# Altium footprint library custom-case.PcbLib: 44 footprints (part 2 of 3)
Each footprint in its own frame and in the unit in brackets; x right, y up, seen from the top. Pads: shape width x height; smd on the part's side, far side on the other; paste and mask are expansions set on the pad; w line width, h text height; cw(c..) or ccw(c..) is an arc to the next point about the centre after c.
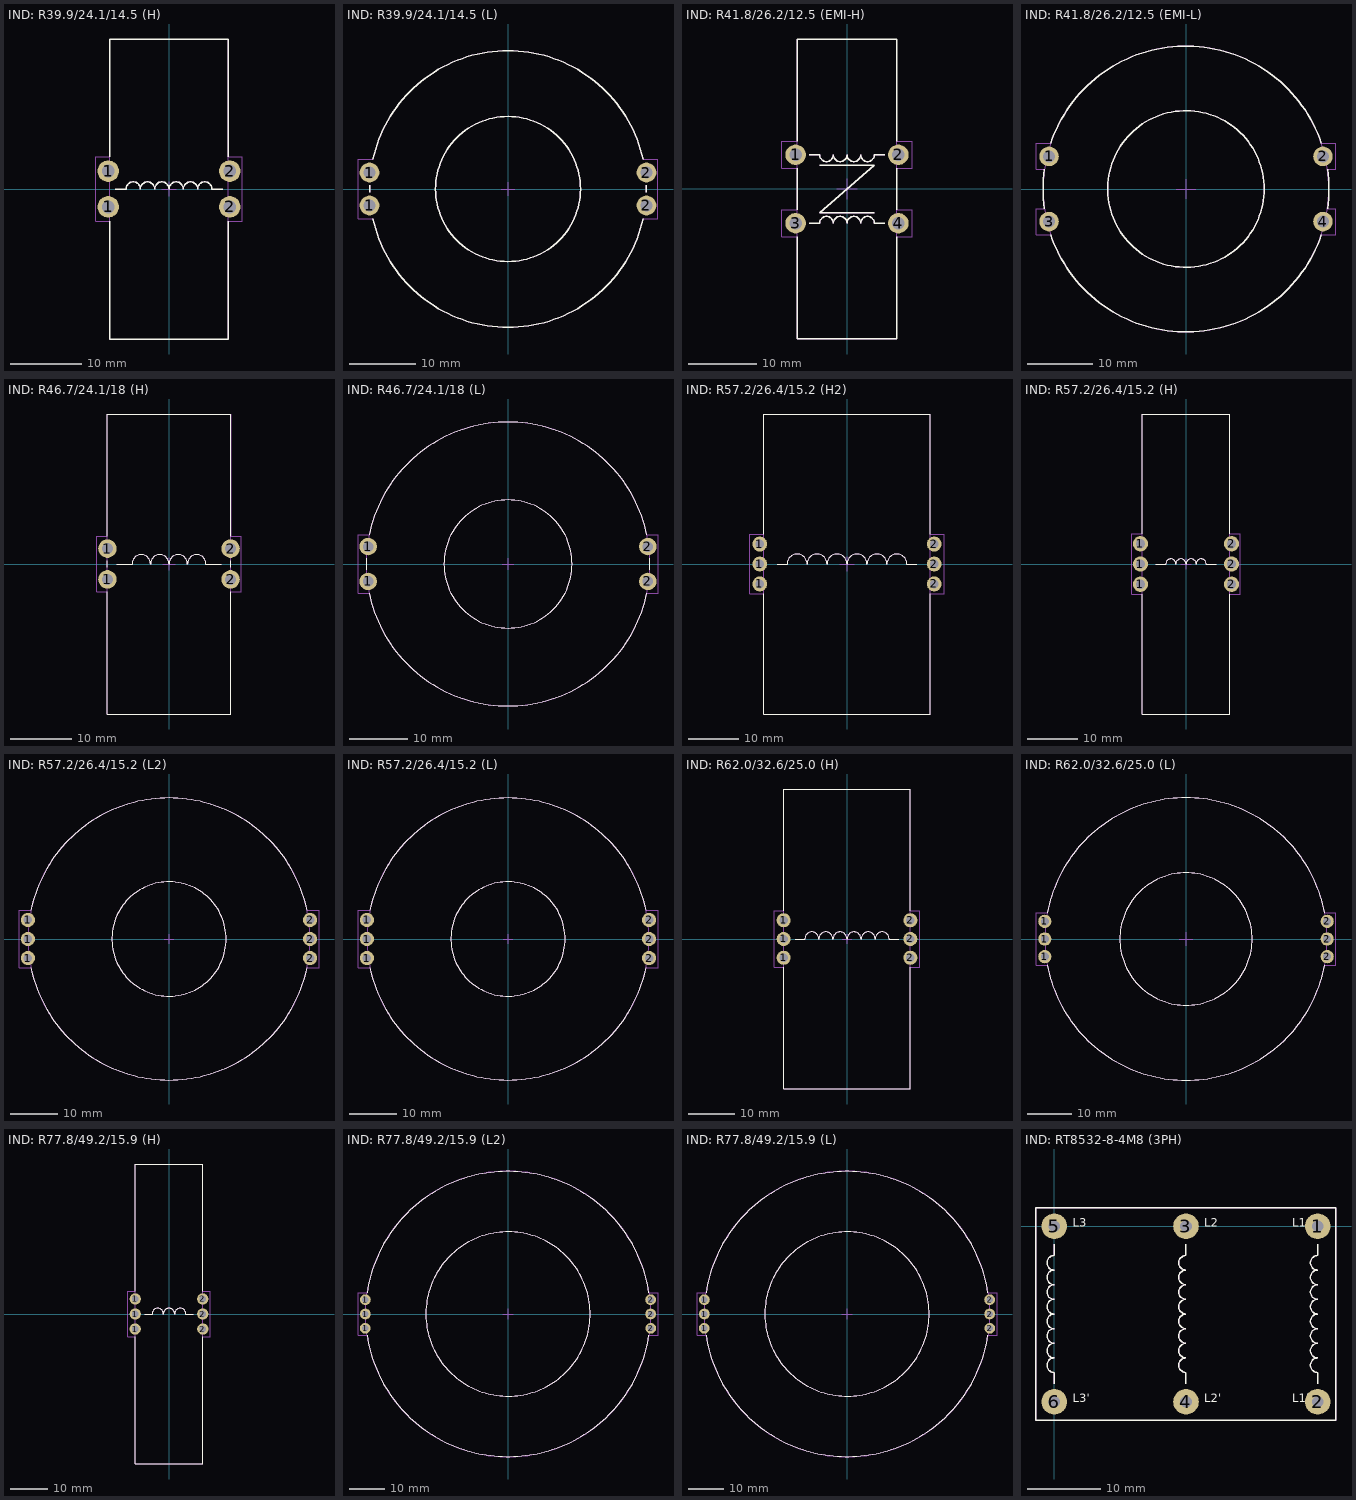
[diagram p1: the footprints below, top view; thin cyan lines are the x and y axes]

## IND: R39.9/24.1/14.5 (H) [mm]
pads (4):
  round 3 hole 1.8: 1(-8.5,-2.5) 1(-8.5,2.5) 2(8.5,-2.5) 2(8.5,2.5)
Top Overlay:
  lines w0.2: -8.276,-4.5 -8.276,-20.976 8.276,-20.976 8.276,-4.5 ; -8.276,4.5 -8.276,20.976 8.276,20.976 8.276,4.5 ; -7.5,0 -6,0 cw(c-5,0) -4,0 cw(c-3,0) -2,0 cw(c-1,0) 0,0 cw(c1,0) 2,0 cw(c3,0) 4,0 cw(c5,0) 6,0 7.5,0
Top Assy:
  lines w0.1: -7.5,0 -6,0 cw(c-5,0) -4,0 cw(c-3,0) -2,0 cw(c-1,0) 0,0 cw(c1,0) 2,0 cw(c3,0) 4,0 cw(c5,0) 6,0 7.5,0 ; -8.276,-20.976 8.276,-20.976 8.276,20.976 -8.276,20.976 -8.276,-20.976
Size Area:
  lines w0.1: -1,0 1,0 ; 0,-1 0,1 ; -10.25,-4.5 -8.276,-4.5 -8.276,-20.976 8.276,-20.976 8.276,-4.5 10.25,-4.5 10.25,4.5 8.276,4.5 8.276,20.976 -8.276,20.976 -8.276,4.5 -10.25,4.5 -10.25,-4.5
3D body "F4 R 39.9 x 24.1 x 14.5 v1.step": height 41.98, standoff 0.02, extent -8.276,-20.976 8.276,20.976

## IND: R39.9/24.1/14.5 (L) [mm]
pads (4):
  round 3 hole 1.8: 1(-21,-2.5) 1(-21,2.5) 2(21,-2.5) 2(21,2.5)
Top Overlay:
  circle w0.2: c0,0 r11
  lines w0.2: -20.97,-0.498 cw(c0,0) -20.969,0.549 ; -20.488,-4.497 ccw(c0,0) 20.488,-4.497 ; -20.488,4.497 cw(c0,0) 20.488,4.497 ; 20.969,0.549 cw(c0,0) 20.97,-0.498
Top Assy:
  circle w0.1: c0,0 r11
  lines w0.1: -20.97,-0.498 cw(c0,0) -20.969,0.549 ; -20.488,-4.497 ccw(c0,0) 20.488,-4.497 ; -20.488,4.497 cw(c0,0) 20.488,4.497 ; 20.969,0.549 cw(c0,0) 20.97,-0.498
Size Area:
  lines w0.1: -1,0 1,0 ; 0,-1 0,1 ; 20.488,4.497 ccw(c0,0) -20.488,4.497 -22.75,4.497 -22.75,-4.497 -20.488,-4.497 ccw(c0,0) 20.488,-4.497 22.75,-4.497 22.75,4.497 20.5,4.497
3D body "F4 R 39.9 x 24.1 x 14.5 v1.step": height 16.53, standoff -0.03, extent -20.976,-20.976 20.976,20.976

## IND: R41.8/26.2/12.5 (EMI-H) [mm]
pads (4):
  round 3 hole 1.8: 1(-7.5,5) 2(7.5,5) 3(-7.5,-5) 4(7.5,-5)
Top Overlay:
  lines w0.2: -7.256,-7 -7.256,-21.906 7.256,-21.906 7.256,-7 ; -7.256,-3 -7.256,3 ; -7.256,7 -7.256,21.906 7.256,21.906 7.256,7 ; -5.5,-5 -4,-5 cw(c-3,-5) -2,-5 cw(c-1,-5) 0,-5 cw(c1,-5) 2,-5 cw(c3,-5) 4,-5 5.5,-5 ; -5.5,5 -4,5 ccw(c-3,5) -2,5 ccw(c-1,5) 0,5 ccw(c1,5) 2,5 ccw(c3,5) 4,5 5.5,5 ; -4,3.5 4,3.5 -4,-3.5 4,-3.5 ; 7.256,-3 7.256,3
Top Assy:
  lines w0.1: -5.5,-5 -4,-5 cw(c-3,-5) -2,-5 cw(c-1,-5) 0,-5 cw(c1,-5) 2,-5 cw(c3,-5) 4,-5 5.5,-5 ; -5.5,5 -4,5 ccw(c-3,5) -2,5 ccw(c-1,5) 0,5 ccw(c1,5) 2,5 ccw(c3,5) 4,5 5.5,5 ; -4,3.5 4,3.5 -4,-3.5 4,-3.5 ; -7.256,-21.906 -7.256,21.906 7.256,21.906 7.256,-21.906 -7.256,-21.906
Size Area:
  lines w0.1: -1.5,0 1.5,0 ; 0,-1.5 0,1.5 ; -9.5,-7 -9.5,-3 -7.256,-3 -7.256,3 -9.5,3 -9.5,7 -7.256,7 -7.256,21.906 7.256,21.906 7.256,7 9.5,7 9.5,3 7.256,3 7.256,-3 9.5,-3 9.5,-7 7.256,-7 7.256,-21.906 -7.256,-21.906 -7.256,-7 -9.5,-7
3D body "R 41.8 x 26.2 x 12.5Blue.step": height 41.9, standoff 0.1, extent -7.256,-21.906 7.256,21.906

## IND: R41.8/26.2/12.5 (EMI-L) [mm]
pads (4):
  round 3 hole 1.8: 1(-21,5) 2(21,5) 3(-21,-5) 4(21,-5)
Top Overlay:
  circle w0.2: c0,0 r12
  lines w0.2: -21.7,3 ccw(c0,0) -21.698,-3.014 ; -20.762,-6.987 ccw(c0,0) 20.751,-7.017 ; -20.762,6.987 cw(c0,0) 20.751,7.017 ; 21.698,-3.014 ccw(c0,0) 21.7,3
Top Assy:
  circle w0.1: c0,0 r21.9
  circle w0.1: c0,0 r12
Size Area:
  lines w0.1: -1.5,0 1.5,0 ; 0,-1.5 0,1.5 ; -23,-7 -23,-3.014 -21.698,-3.014 cw(c0,0) -21.7,3 -23,3 -23,7 -20.762,6.987 cw(c0,0) 20.751,7.017 23,7 23,3 21.7,3 cw(c0,0) 21.698,-3.014 23,-3.014 23,-7.017 20.751,-7.017 cw(c0,0) -20.762,-6.987 -23,-7
3D body "R 41.8 x 26.2 x 12.5Blue.step": height 14.64, standoff 0.13, extent -20.9,-21.906 20.9,21.906

## IND: R46.7/24.1/18 (H) [mm]
pads (4):
  round 3 hole 1.8: 1(-10,-2.5) 1(-10,2.5) 2(10,-2.5) 2(10,2.5)
Top Overlay:
  lines w0.2: -10.026,-4.5 -10.026,-24.363 10.026,-24.363 10.026,-4.5 ; -10.026,-0.5 -10,0.5 ; -10.026,4.5 -10.026,24.363 10.026,24.363 10.026,5 10.026,4.5 ; -8.5,0 -6,0 cw(c-4.5,0) -3,0 cw(c-1.5,0) 0,0 cw(c1.5,0) 3,0 cw(c4.5,0) 6,0 8.5,0 ; 10,-0.5 10.026,0.5
Top Assy:
  lines w0.1: -8.5,0 -6,0 cw(c-4.5,0) -3,0 cw(c-1.5,0) 0,0 cw(c1.5,0) 3,0 cw(c4.5,0) 6,0 8.5,0 ; -10.026,-24.363 10.026,-24.363 10.026,24.363 -10.026,24.363 -10.026,-24.363
Size Area:
  lines w0.1: -1,0 1,0 ; 0,-1 0,1 ; -11.75,-4.5 -11.75,4.5 -10,4.5 -10,24.363 10,24.363 10.026,4.5 11.75,4.5 11.75,-4.5 10.026,-4.5 10,-24.363 -10,-24.363 -10,-4.5 -11.75,-4.5
3D body "F5 R 46.7 x 24.1 x 18 v1.step": height 48.57, standoff -0.17, extent -10.026,-24.363 10.026,24.363

## IND: R46.7/24.1/18 (L) [mm]
pads (4):
  round 3 hole 1.8: 1(-24,-3) 1(-24,3) 2(24,-3) 2(24,3)
Top Overlay:
  circle w0.2: c0,0 r11
  lines w0.2: -24.35,-1 cw(c0,0) -24.349,1.015 ; -23.854,-4.99 ccw(c0,0) 23.854,-4.99 ; -23.854,4.99 cw(c0,0) 23.854,4.99 ; 24.35,-1 ccw(c0,0) 24.349,1.015
Top Assy:
  circle w0.1: c0,0 r24.371
  circle w0.1: c0,0 r11
Size Area:
  lines w0.1: -1,0 1,0 ; 0,-1 0,1 ; -25.75,-5.001 -25.75,4.99 -23.854,4.99 cw(c0,0) 23.854,4.99 25.75,4.99 25.75,-5.001 23.854,-4.99 cw(c0,0) -23.854,-4.99 -25.75,-5.001
3D body "F5 R 46.7 x 24.1 x 18 v1.step": height 20.03, standoff -0.03, extent -24.37,-24.363 24.37,24.363

## IND: R57.2/26.4/15.2 (H2) [mm]
pads (6):
  round 3 hole 1.8: 1(-17.5,-4) 1(-17.5,0) 1(-17.5,4) 2(17.5,-4) 2(17.5,0) 2(17.5,4)
Top Overlay:
  lines w0.2: -16.722,-6 -16.722,-30.09 16.722,-30.09 16.722,-6 ; -16.722,6 -16.722,30.09 16.722,30.09 16.722,6 ; -14,0 -12,0 cw(c-10,0) -8,0 cw(c-6,0) -4,0 cw(c-2,0) 0,0 cw(c2,0) 4,0 cw(c6,0) 8,0 cw(c10,0) 12,0 14,0
Top Assy:
  lines w0.1: -14,0 -12,0 cw(c-10,0) -8,0 cw(c-6,0) -4,0 cw(c-2,0) 0,0 cw(c2,0) 4,0 cw(c6,0) 8,0 cw(c10,0) 12,0 14,0 ; -16.722,-30.09 -16.722,30.09 16.722,30.09 16.722,-30.09 -16.722,-30.09
Size Area:
  lines w0.1: -1.5,0 1.5,0 ; 0,-1.5 0,1.5 ; -19.5,-6 -16.722,-6 -16.722,-30.09 16.722,-30.09 16.722,-6 19.5,-6 19.5,6 16.722,6 16.722,30.09 -16.722,30.09 -16.722,6 -19.5,6 -19.5,-6
3D body "F6 R 57.2 x 26.4 x 15.2 v2.step": height 60.11, standoff -0.11, extent -16.722,-30.09 16.722,30.09

## IND: R57.2/26.4/15.2 (H) [mm]
pads (6):
  round 3 hole 1.8: 1(-9,-4) 1(-9,0) 1(-9,4) 2(9,-4) 2(9,0) 2(9,4)
Top Overlay:
  lines w0.2: -8.626,-6 -8.626,-29.614 8.626,-29.614 8.626,-6 ; -8.626,6 -8.626,29.614 8.626,29.614 8.626,6 ; -6,0 -4,0 cw(c-3,0) -2,0 cw(c-1,0) 0,0 cw(c1,0) 2,0 cw(c3,0) 4,0 6,0
Top Assy:
  lines w0.1: -6,0 -4,0 cw(c-3,0) -2,0 cw(c-1,0) 0,0 cw(c1,0) 2,0 cw(c3,0) 4,0 6,0 ; -8.626,-29.614 -8.626,29.614 8.626,29.614 8.626,-29.614 -8.626,-29.614
Size Area:
  lines w0.1: -1,0 1,0 ; 0,-1 0,1 ; -10.75,-6 -10.75,6 -8.626,6 -8.626,29.614 8.626,29.614 8.626,6 10.75,6 10.75,-6 8.626,-6 8.626,-29.614 -8.626,-29.614 -8.626,-6 -10.75,-6
3D body "F6 R 57.2 x 26.4 x 15.2 v1.step": height 58.92, standoff -0.32, extent -8.626,-29.614 8.626,29.614

## IND: R57.2/26.4/15.2 (L2) [mm]
pads (6):
  round 3 hole 1.8: 1(-29.621,-4) 1(-29.621,0) 1(-29.621,4) 2(29.621,-4) 2(29.621,0) 2(29.621,4)
Top Overlay:
  circle w0.2: c0,0 r12
  lines w0.2: -29,-6 ccw(c0,0) 29,-6 ; -29,6 cw(c0,0) 29,6
Top Assy:
  circle w0.1: c0,0 r29.621
  circle w0.1: c0,0 r12
Size Area:
  lines w0.1: -1,0 1,0 ; 0,-1 0,1 ; -31.5,-6 -29,-6 ccw(c0,0) 29,-6 31.5,-6 31.5,6 29,6 ccw(c0,0) -29,6 -31.5,6 -31.5,-6
3D body "F6 R 57.2 x 26.4 x 15.2 v2.step": height 33.52, standoff 0.08, extent -30.108,-30.09 30.108,30.09

## IND: R57.2/26.4/15.2 (L) [mm]
pads (6):
  round 3 hole 1.8: 1(-29.621,-4) 1(-29.621,0) 1(-29.621,4) 2(29.621,-4) 2(29.621,0) 2(29.621,4)
Top Overlay:
  circle w0.2: c0,0 r12
  lines w0.2: -29,-6 ccw(c0,0) 29,-6 ; -29,6 cw(c0,0) 29,6
Top Assy:
  circle w0.1: c0,0 r29.621
  circle w0.1: c0,0 r12
Size Area:
  lines w0.1: -1,0 1,0 ; 0,-1 0,1 ; -31.5,-6 -29,-6 ccw(c0,0) 29,-6 31.5,-6 31.5,6 29,6 ccw(c0,0) -29,6 -31.5,6 -31.5,-6
3D body "F6 R 57.2 x 26.4 x 15.2 v1.step": height 17.23, standoff -0.03, extent -29.621,-29.614 29.621,29.614

## IND: R62.0/32.6/25.0 (H) [mm]
pads (6):
  round 3 hole 1.8: 1(-13.526,-4) 1(-13.526,0) 1(-13.526,4) 2(13.526,-4) 2(13.526,0) 2(13.526,4)
Top Overlay:
  lines w0.2: -13.526,-6 -13.526,-32 13.526,-32 13.526,-6 ; -13.526,6 -13.5,32.016 13.526,32 13.526,6 ; -11,0 -9,0 cw(c-7.5,0) -6,0 cw(c-4.5,0) -3,0 cw(c-1.5,0) 0,0 cw(c1.5,0) 3,0 cw(c4.5,0) 6,0 cw(c7.5,0) 9,0 11,0
Top Assy:
  lines w0.1: -11,0 -9,0 cw(c-7.5,0) -6,0 cw(c-4.5,0) -3,0 cw(c-1.5,0) 0,0 cw(c1.5,0) 3,0 cw(c4.5,0) 6,0 cw(c7.5,0) 9,0 11,0 ; -13.526,-32.016 13.526,-32.016 13.526,32.016 -13.526,32.016 -13.526,-32.016
Size Area:
  lines w0.1: -1,0 1,0 ; 0,-1 0,1 ; -15.5,-6 -13.526,-6 -13.526,-32 13.526,-32.016 13.526,-6 15.5,-6 15.5,6 13.526,6 13.526,32.016 -13.5,32.016 -13.526,6 -15.5,6 -15.5,-6
3D body "F7 R 62.0 x 32.6 x 25.0 v1.step": height 64.02, standoff -0.02, extent -13.526,-32.016 13.526,32.016

## IND: R62.0/32.6/25.0 (L) [mm]
pads (6):
  round 3 hole 1.8: 1(-32,-4) 1(-32,0) 1(-32,4) 2(32,-4) 2(32,0) 2(32,4)
Top Overlay:
  circle w0.2: c0,0 r15
  lines w0.2: -31.435,-5.988 ccw(c0,0) 31.435,-5.988 ; -31.435,5.988 cw(c0,0) 31.435,5.988
Top Assy:
  circle w0.1: c0,0 r15
  circle w0.1: c0,0 r32
Size Area:
  lines w0.1: -1.5,0 1.5,0 ; 0,-1.5 0,1.5 ; -34,-6 -31.435,-5.988 ccw(c0,0) 31.435,-5.988 34,-6 34,5.988 31.435,5.988 ccw(c0,0) -31.435,5.988 -34,5.988 -34,-6
3D body "F7 R 62.0 x 32.6 x 25.0 v1.step": height 27.03, standoff -0.03, extent -32.022,-32.016 32.022,32.016

## IND: R77.8/49.2/15.9 (H) [mm]
pads (6):
  round 3 hole 1.8: 1(-9,-4) 1(-8.976,0) 1(-8.976,4) 2(8.976,0) 2(8.976,4) 2(9,-4)
Top Overlay:
  lines w0.2: -8.976,-6 -8.976,-39.926 8.976,-39.926 8.976,-6 ; -8.976,6 -8.976,39.926 8.976,39.926 8.976,6 ; -6.5,0 -4.5,0 cw(c-3,0) -1.5,0 cw(c0,0) 1.5,0 cw(c3,0) 4.5,0 6.5,0
Top Assy:
  lines w0.1: -6.5,0 -4.5,0 cw(c-3,0) -1.5,0 cw(c0,0) 1.5,0 cw(c3,0) 4.5,0 6.5,0 ; -8.976,-39.926 -8.976,39.926 8.976,39.926 8.976,-39.926 -8.976,-39.926
Size Area:
  lines w0.1: -11,-6 -11,6 -8.976,6 -8.976,39.926 8.976,39.926 8.976,6 11,6 11,-6 8.976,-6 8.976,-39.926 -8.976,-39.926 -8.976,-6 -11,-6
3D body "F8 R 77.8 x 49.2 x 15.9 v1.step": height 79.93, standoff 0.07, extent -8.976,-39.926 8.976,39.926

## IND: R77.8/49.2/15.9 (L2) [mm]
pads (6):
  round 3 hole 1.8: 1(-40,-4) 1(-39.926,0) 1(-39.926,4) 2(39.926,0) 2(39.926,4) 2(40,-4)
Top Overlay:
  circle w0.2: c0,0 r23
  lines w0.2: -39.473,-5.996 ccw(c0,0) 39.473,-5.996 ; -39.473,5.996 cw(c0,0) 39.473,5.996
3D model:
  circle w0.1: c0,0 r23
  circle w0.1: c0,0 r40
Size Area:
  lines w0.1: -1.5,0 1.5,0 ; 0,-1.5 0,1.5 ; -42,-6 -42,5.996 -39.473,5.996 cw(c0,0) 39.473,5.996 39.5,5.996 42,5.996 42,-5.996 39.473,-5.996 cw(c0,0) -39.473,-5.996 -42,-6
3D body "F8 R 77.8 x 49.2 x 15.9 v3.step": height 34.23, standoff 0.27, extent -39.911,-40.026 39.926,39.826

## IND: R77.8/49.2/15.9 (L) [mm]
pads (6):
  round 3 hole 1.8: 1(-40,-4) 1(-39.926,0) 1(-39.926,4) 2(39.926,0) 2(39.926,4) 2(40,-4)
Top Overlay:
  circle w0.2: c0,0 r23
  lines w0.2: -39.473,-5.996 ccw(c0,0) 39.473,-5.996 ; -39.473,5.996 cw(c0,0) 39.473,5.996
3D model:
  circle w0.1: c0,0 r23
  circle w0.1: c0,0 r40
Size Area:
  lines w0.1: -1.5,0 1.5,0 ; 0,-1.5 0,1.5 ; -42,-6 -42,5.996 -39.473,5.996 cw(c0,0) 39.473,5.996 39.5,5.996 42,5.996 42,-5.996 39.473,-5.996 cw(c0,0) -39.473,-5.996 -42,-6
3D body "F8 R 77.8 x 49.2 x 15.9 v1.step": height 17.73, standoff -0.23, extent -39.926,-39.926 39.926,39.926

## IND: RT8532-8-4M8 (3PH) [mm]
pads (6):
  round 3.5 hole 1.6: 1(36,0) 2(36,-24) 3(18,0) 4(18,-24) 5(0,0) 6(0,-24)
Top Overlay:
  lines w0.2: 0,-21.5 0,-20 cw(c0,-19) 0,-18 cw(c0,-17) 0,-16 cw(c0,-15) 0,-14 cw(c0,-13) 0,-12 cw(c0,-11) 0,-10 cw(c0,-9) 0,-8 cw(c0,-7) 0,-6 cw(c0,-5) 0,-4 0,-2.5 ; 18,-21.5 18,-20 cw(c18,-19) 18,-18 cw(c18,-17) 18,-16 cw(c18,-15) 18,-14 cw(c18,-13) 18,-12 cw(c18,-11) 18,-10 cw(c18,-9) 18,-8 cw(c18,-7) 18,-6 cw(c18,-5) 18,-4 18,-2.5 ; 36,-21.5 36,-20 cw(c36,-19) 36,-18 cw(c36,-17) 36,-16 cw(c36,-15) 36,-14 cw(c36,-13) 36,-12 cw(c36,-11) 36,-10 cw(c36,-9) 36,-8 cw(c36,-7) 36,-6 cw(c36,-5) 36,-4 36,-2.5 ; -2.5,-26.5 38.5,-26.5 38.5,2.5 -2.5,2.5 -2.5,-26.5
  text "L1'" at 32.5,-24.5 h2
  text "L1" at 32.5,-0.5 h2
  text "L2'" at 20.5,-24.5 h2
  text "L2" at 20.5,-0.5 h2
  text "L3'" at 2.5,-24.5 h2
  text "L3" at 2.5,-0.5 h2
Top Assy:
  lines w0.1: 0,-21.5 0,-20 cw(c0,-19) 0,-18 cw(c0,-17) 0,-16 cw(c0,-15) 0,-14 cw(c0,-13) 0,-12 cw(c0,-11) 0,-10 cw(c0,-9) 0,-8 cw(c0,-7) 0,-6 cw(c0,-5) 0,-4 0,-2.5 ; 18,-21.5 18,-20 cw(c18,-19) 18,-18 cw(c18,-17) 18,-16 cw(c18,-15) 18,-14 cw(c18,-13) 18,-12 cw(c18,-11) 18,-10 cw(c18,-9) 18,-8 cw(c18,-7) 18,-6 cw(c18,-5) 18,-4 18,-2.5 ; 36,-21.5 36,-20 cw(c36,-19) 36,-18 cw(c36,-17) 36,-16 cw(c36,-15) 36,-14 cw(c36,-13) 36,-12 cw(c36,-11) 36,-10 cw(c36,-9) 36,-8 cw(c36,-7) 36,-6 cw(c36,-5) 36,-4 36,-2.5 ; -2.5,-26.5 38.5,-26.5 38.5,2.5 -2.5,2.5 -2.5,-26.5
  text "L3'" at 2.5,-24.5 h2
  text "L3" at 2.5,-0.5 h2
  text "L2'" at 20.5,-24.5 h2
  text "L2" at 20.5,-0.5 h2
  text "L1'" at 32.5,-24.5 h2
  text "L1" at 32.5,-0.5 h2
Size Area:
  lines w0.1: -2.5,-26.5 38.5,-26.5 38.5,2.5 -2.5,2.5 -2.5,-26.5
3D body "RT8532-8-4M8.STEP": height 43.97, standoff -4, extent -2.5,-26.5 38.5,2.5